# EAGLE library part A3918SESTR-T (library A3918SESTR-T)
A3918: Low Voltage DC Motor Driver Source: Datasheet <http://www.allegromicro.com/en/Products/Motor-Driver-And-Interface-ICs/Brush-DC-Motor-Drivers/A3918.aspx>
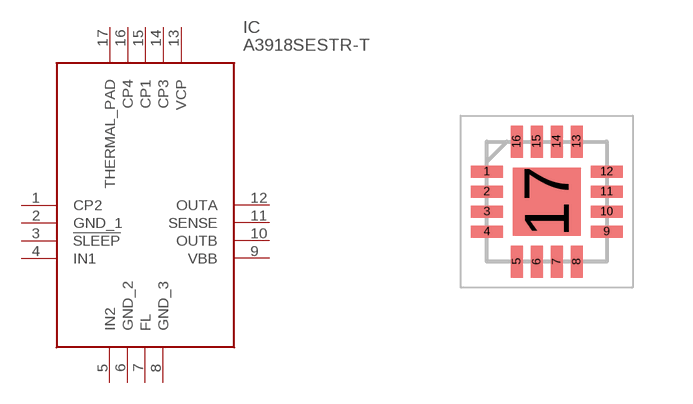
[diagram p0: symbol with the pads of QFN50P300X300X80-17N; footprint QFN50P300X300X80-17N]

Designator prefix IC

## A3918SESTR-T (Arrow_Part_Number: A3918SESTR-T; Arrow_Price/Stock: https://www.arrow.com/en/products/a3918sestr-t/allegro-microsystems; Description: A3918: Low Voltage DC Motor Driver; Height: 0.8mm; Manufacturer_Name: Allegro Microsystems; Manufacturer_Part_Number: A3918SESTR-T)  [QFN50P300X300X80-17N]
1  CP2
2  GND_1
3  !SLEEP
4  IN1
5  IN2
6  GND_2
7  FL
8  GND_3
9  VBB
10  OUTB
11  SENSE
12  OUTA
13  VCP
14  CP3
15  CP1
16  CP4
17  THERMAL_PAD

## Footprint QFN50P300X300X80-17N (pad centres in mm)
ES Package, 16-Contact QFN with Exposed Thermal Pad
smd 0.8 x 0.3: 1 -1.5,0.75; 2 -1.5,0.25; 3 -1.5,-0.25; 4 -1.5,-0.75; 9 1.5,-0.75; 10 1.5,-0.25; 11 1.5,0.25; 12 1.5,0.75
smd 0.3 x 0.8: 5 -0.75,-1.5; 6 -0.25,-1.5; 7 0.25,-1.5; 8 0.75,-1.5; 13 0.75,1.5; 14 0.25,1.5; 15 -0.25,1.5; 16 -0.75,1.5
smd 1.7 x 1.7: 17 0,0